# Altium integrated library NXP_60_26022015.IntLib: 1306 symbols (part 27 of 28)
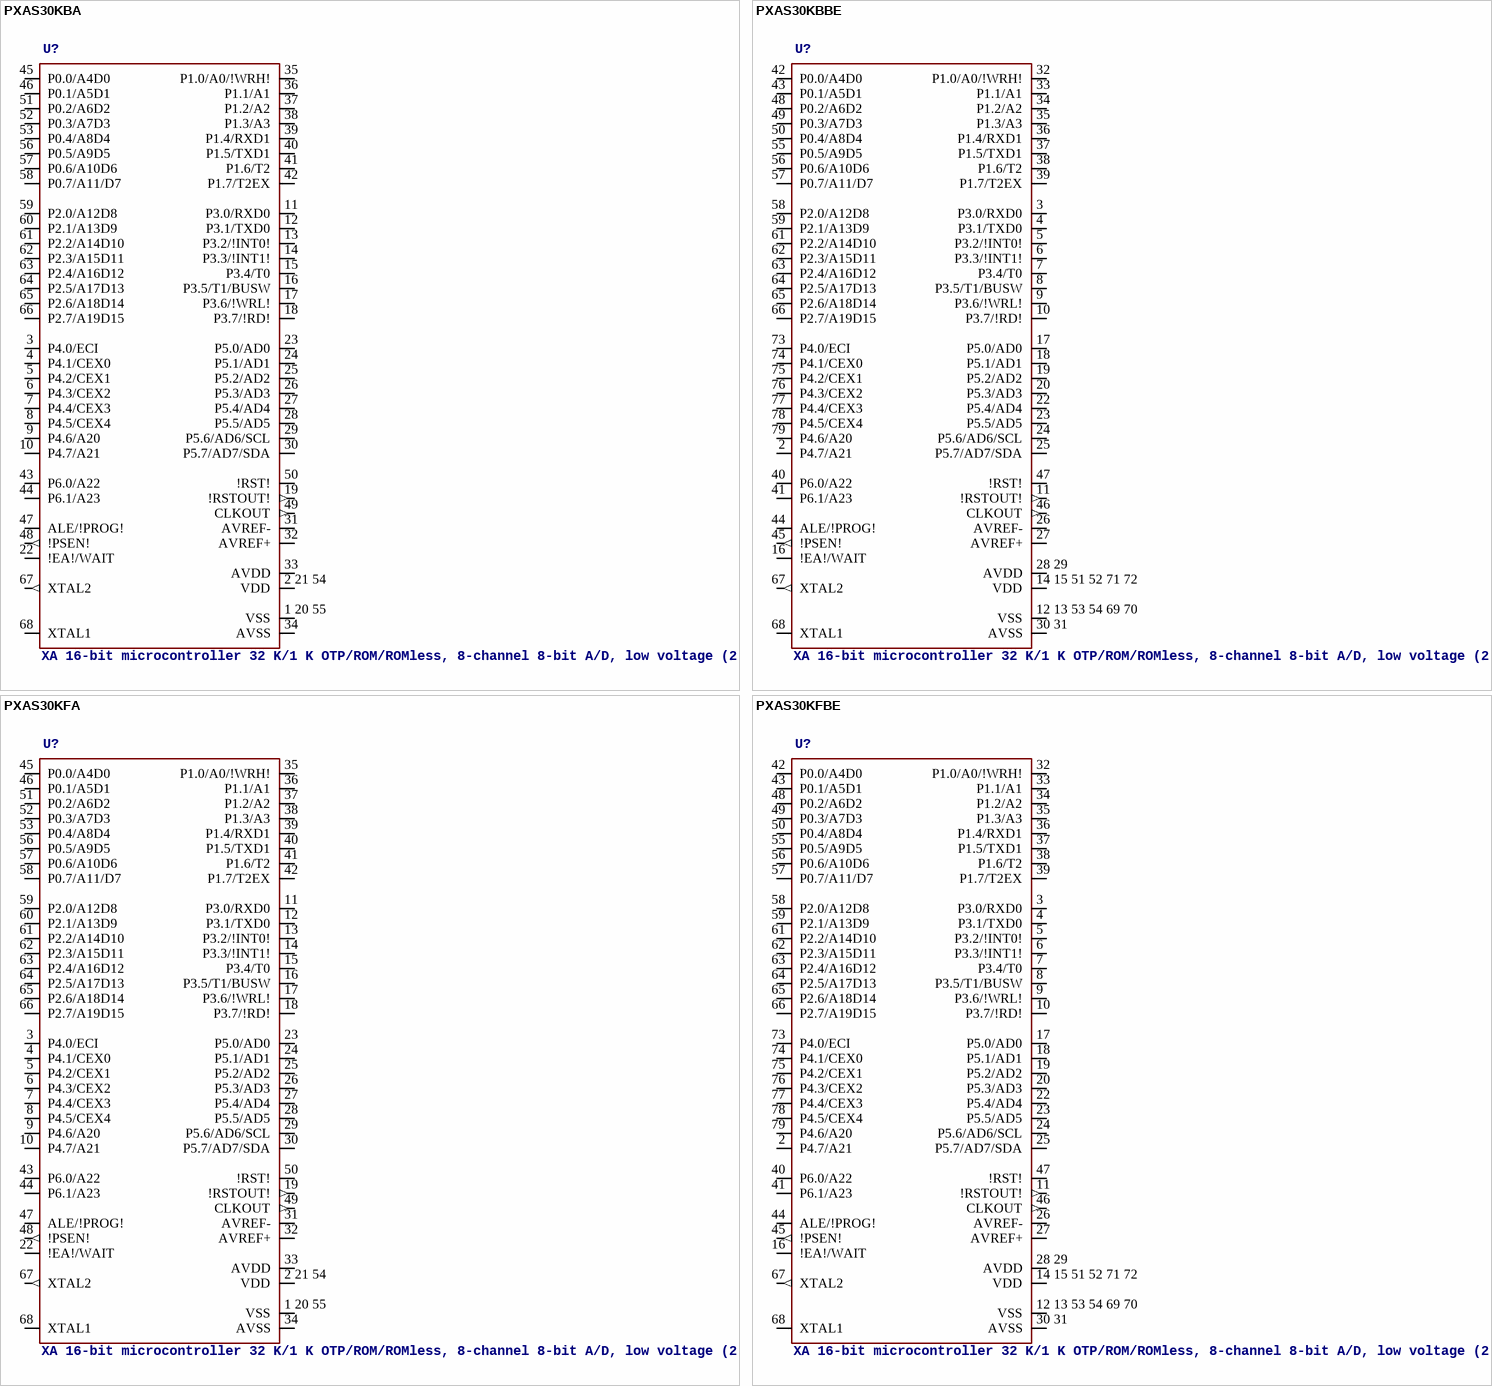
[diagram p211: symbols PXAS30KBA to PXAS30KFBE]

## PXAS30KBA
designator U?, comment XA 16-bit microcontroller 32 K/1 K OTP/ROM/ROMless, 8-channel 8-bit A/D, low voltage (2.7 V–5.5 V), I2C, 2 UARTs, 16 MB address range The XA-S3 device is a member of NXP Semiconductors’ XA (eXtended Architecture) family of high performance 16-bit single-chip microcontrollers. The XA-S3 device combines many powerful peripherals on one chip. With its high performance A/D converter, timers/counters, watchdog, Programmable Counter Array (PCA), I2C interface, dual UARTs, and multiple general purpose I/O ports, it is suited for general multipurpose high performance embedded control functions.    AAL Eindhoven MK
footprint SOT188
pins: 1 20 55 VSS, 2 21 54 VDD (power), 3 P4.0/ECI, 4 P4.1/CEX0, 5 P4.2/CEX1, 6 P4.3/CEX2, 7 P4.4/CEX3, 8 P4.5/CEX4, 9 P4.6/A20, 10 P4.7/A21, 11 P3.0/RXD0, 12 P3.1/TXD0, 13 P3.2/!INT0!, 14 P3.3/!INT1!, 15 P3.4/T0, 16 P3.5/T1/BUSW, 17 P3.6/!WRL!, 18 P3.7/!RD!, 19 !RSTOUT! (out), 22 !EA!/WAIT, 23 P5.0/AD0, 24 P5.1/AD1, 25 P5.2/AD2, 26 P5.3/AD3, 27 P5.4/AD4, 28 P5.5/AD5, 29 P5.6/AD6/SCL, 30 P5.7/AD7/SDA, 31 AVREF-, 32 AVREF+, 33 AVDD (power), 34 AVSS (power), 35 P1.0/A0/!WRH!, 36 P1.1/A1, 37 P1.2/A2, 38 P1.3/A3, 39 P1.4/RXD1, 40 P1.5/TXD1, 41 P1.6/T2, 42 P1.7/T2EX, 43 P6.0/A22, 44 P6.1/A23, 45 P0.0/A4D0, 46 P0.1/A5D1, 47 ALE/!PROG!, 48 !PSEN! (out), 49 CLKOUT (out), 50 !RST!, 51 P0.2/A6D2, 52 P0.3/A7D3, 53 P0.4/A8D4, 56 P0.5/A9D5, 57 P0.6/A10D6, 58 P0.7/A11/D7, 59 P2.0/A12D8, 60 P2.1/A13D9, 61 P2.2/A14D10, 62 P2.3/A15D11, 63 P2.4/A16D12, 64 P2.5/A17D13, 65 P2.6/A18D14, 66 P2.7/A19D15, 67 XTAL2 (out), 68 XTAL1

## PXAS30KBBE
designator U?, comment XA 16-bit microcontroller 32 K/1 K OTP/ROM/ROMless, 8-channel 8-bit A/D, low voltage (2.7 V–5.5 V), I2C, 2 UARTs, 16 MB address range The XA-S3 device is a member of NXP Semiconductors’ XA (eXtended Architecture) family of high performance 16-bit single-chip microcontrollers. The XA-S3 device combines many powerful peripherals on one chip. With its high performance A/D converter, timers/counters, watchdog, Programmable Counter Array (PCA), I2C interface, dual UARTs, and multiple general purpose I/O ports, it is suited for general multipurpose high performance embedded control functions.    AAL Eindhoven MK
footprint SOT315-1
pins: 2 P4.7/A21, 3 P3.0/RXD0, 4 P3.1/TXD0, 5 P3.2/!INT0!, 6 P3.3/!INT1!, 7 P3.4/T0, 8 P3.5/T1/BUSW, 9 P3.6/!WRL!, 10 P3.7/!RD!, 11 !RSTOUT! (out), 12 13 53 54 69 70 VSS, 14 15 51 52 71 72 VDD (power), 16 !EA!/WAIT, 17 P5.0/AD0, 18 P5.1/AD1, 19 P5.2/AD2, 20 P5.3/AD3, 22 P5.4/AD4, 23 P5.5/AD5, 24 P5.6/AD6/SCL, 25 P5.7/AD7/SDA, 26 AVREF-, 27 AVREF+, 28 29 AVDD (power), 30 31 AVSS (power), 32 P1.0/A0/!WRH!, 33 P1.1/A1, 34 P1.2/A2, 35 P1.3/A3, 36 P1.4/RXD1, 37 P1.5/TXD1, 38 P1.6/T2, 39 P1.7/T2EX, 40 P6.0/A22, 41 P6.1/A23, 42 P0.0/A4D0, 43 P0.1/A5D1, 44 ALE/!PROG!, 45 !PSEN! (out), 46 CLKOUT (out), 47 !RST!, 48 P0.2/A6D2, 49 P0.3/A7D3, 50 P0.4/A8D4, 55 P0.5/A9D5, 56 P0.6/A10D6, 57 P0.7/A11/D7, 58 P2.0/A12D8, 59 P2.1/A13D9, 61 P2.2/A14D10, 62 P2.3/A15D11, 63 P2.4/A16D12, 64 P2.5/A17D13, 65 P2.6/A18D14, 66 P2.7/A19D15, 67 XTAL2 (out), 68 XTAL1, 73 P4.0/ECI, 74 P4.1/CEX0, 75 P4.2/CEX1, 76 P4.3/CEX2, 77 P4.4/CEX3, 78 P4.5/CEX4, 79 P4.6/A20

## PXAS30KFA
designator U?, comment XA 16-bit microcontroller 32 K/1 K OTP/ROM/ROMless, 8-channel 8-bit A/D, low voltage (2.7 V–5.5 V), I2C, 2 UARTs, 16 MB address range The XA-S3 device is a member of NXP Semiconductors’ XA (eXtended Architecture) family of high performance 16-bit single-chip microcontrollers. The XA-S3 device combines many powerful peripherals on one chip. With its high performance A/D converter, timers/counters, watchdog, Programmable Counter Array (PCA), I2C interface, dual UARTs, and multiple general purpose I/O ports, it is suited for general multipurpose high performance embedded control functions.    AAL Eindhoven MK
footprint SOT188
pins: 1 20 55 VSS, 2 21 54 VDD (power), 3 P4.0/ECI, 4 P4.1/CEX0, 5 P4.2/CEX1, 6 P4.3/CEX2, 7 P4.4/CEX3, 8 P4.5/CEX4, 9 P4.6/A20, 10 P4.7/A21, 11 P3.0/RXD0, 12 P3.1/TXD0, 13 P3.2/!INT0!, 14 P3.3/!INT1!, 15 P3.4/T0, 16 P3.5/T1/BUSW, 17 P3.6/!WRL!, 18 P3.7/!RD!, 19 !RSTOUT! (out), 22 !EA!/WAIT, 23 P5.0/AD0, 24 P5.1/AD1, 25 P5.2/AD2, 26 P5.3/AD3, 27 P5.4/AD4, 28 P5.5/AD5, 29 P5.6/AD6/SCL, 30 P5.7/AD7/SDA, 31 AVREF-, 32 AVREF+, 33 AVDD (power), 34 AVSS (power), 35 P1.0/A0/!WRH!, 36 P1.1/A1, 37 P1.2/A2, 38 P1.3/A3, 39 P1.4/RXD1, 40 P1.5/TXD1, 41 P1.6/T2, 42 P1.7/T2EX, 43 P6.0/A22, 44 P6.1/A23, 45 P0.0/A4D0, 46 P0.1/A5D1, 47 ALE/!PROG!, 48 !PSEN! (out), 49 CLKOUT (out), 50 !RST!, 51 P0.2/A6D2, 52 P0.3/A7D3, 53 P0.4/A8D4, 56 P0.5/A9D5, 57 P0.6/A10D6, 58 P0.7/A11/D7, 59 P2.0/A12D8, 60 P2.1/A13D9, 61 P2.2/A14D10, 62 P2.3/A15D11, 63 P2.4/A16D12, 64 P2.5/A17D13, 65 P2.6/A18D14, 66 P2.7/A19D15, 67 XTAL2 (out), 68 XTAL1

## PXAS30KFBE
designator U?, comment XA 16-bit microcontroller 32 K/1 K OTP/ROM/ROMless, 8-channel 8-bit A/D, low voltage (2.7 V–5.5 V), I2C, 2 UARTs, 16 MB address range The XA-S3 device is a member of NXP Semiconductors’ XA (eXtended Architecture) family of high performance 16-bit single-chip microcontrollers. The XA-S3 device combines many powerful peripherals on one chip. With its high performance A/D converter, timers/counters, watchdog, Programmable Counter Array (PCA), I2C interface, dual UARTs, and multiple general purpose I/O ports, it is suited for general multipurpose high performance embedded control functions.    AAL Eindhoven MK
footprint SOT315-1
pins: 2 P4.7/A21, 3 P3.0/RXD0, 4 P3.1/TXD0, 5 P3.2/!INT0!, 6 P3.3/!INT1!, 7 P3.4/T0, 8 P3.5/T1/BUSW, 9 P3.6/!WRL!, 10 P3.7/!RD!, 11 !RSTOUT! (out), 12 13 53 54 69 70 VSS, 14 15 51 52 71 72 VDD (power), 16 !EA!/WAIT, 17 P5.0/AD0, 18 P5.1/AD1, 19 P5.2/AD2, 20 P5.3/AD3, 22 P5.4/AD4, 23 P5.5/AD5, 24 P5.6/AD6/SCL, 25 P5.7/AD7/SDA, 26 AVREF-, 27 AVREF+, 28 29 AVDD (power), 30 31 AVSS (power), 32 P1.0/A0/!WRH!, 33 P1.1/A1, 34 P1.2/A2, 35 P1.3/A3, 36 P1.4/RXD1, 37 P1.5/TXD1, 38 P1.6/T2, 39 P1.7/T2EX, 40 P6.0/A22, 41 P6.1/A23, 42 P0.0/A4D0, 43 P0.1/A5D1, 44 ALE/!PROG!, 45 !PSEN! (out), 46 CLKOUT (out), 47 !RST!, 48 P0.2/A6D2, 49 P0.3/A7D3, 50 P0.4/A8D4, 55 P0.5/A9D5, 56 P0.6/A10D6, 57 P0.7/A11/D7, 58 P2.0/A12D8, 59 P2.1/A13D9, 61 P2.2/A14D10, 62 P2.3/A15D11, 63 P2.4/A16D12, 64 P2.5/A17D13, 65 P2.6/A18D14, 66 P2.7/A19D15, 67 XTAL2 (out), 68 XTAL1, 73 P4.0/ECI, 74 P4.1/CEX0, 75 P4.2/CEX1, 76 P4.3/CEX2, 77 P4.4/CEX3, 78 P4.5/CEX4, 79 P4.6/A20

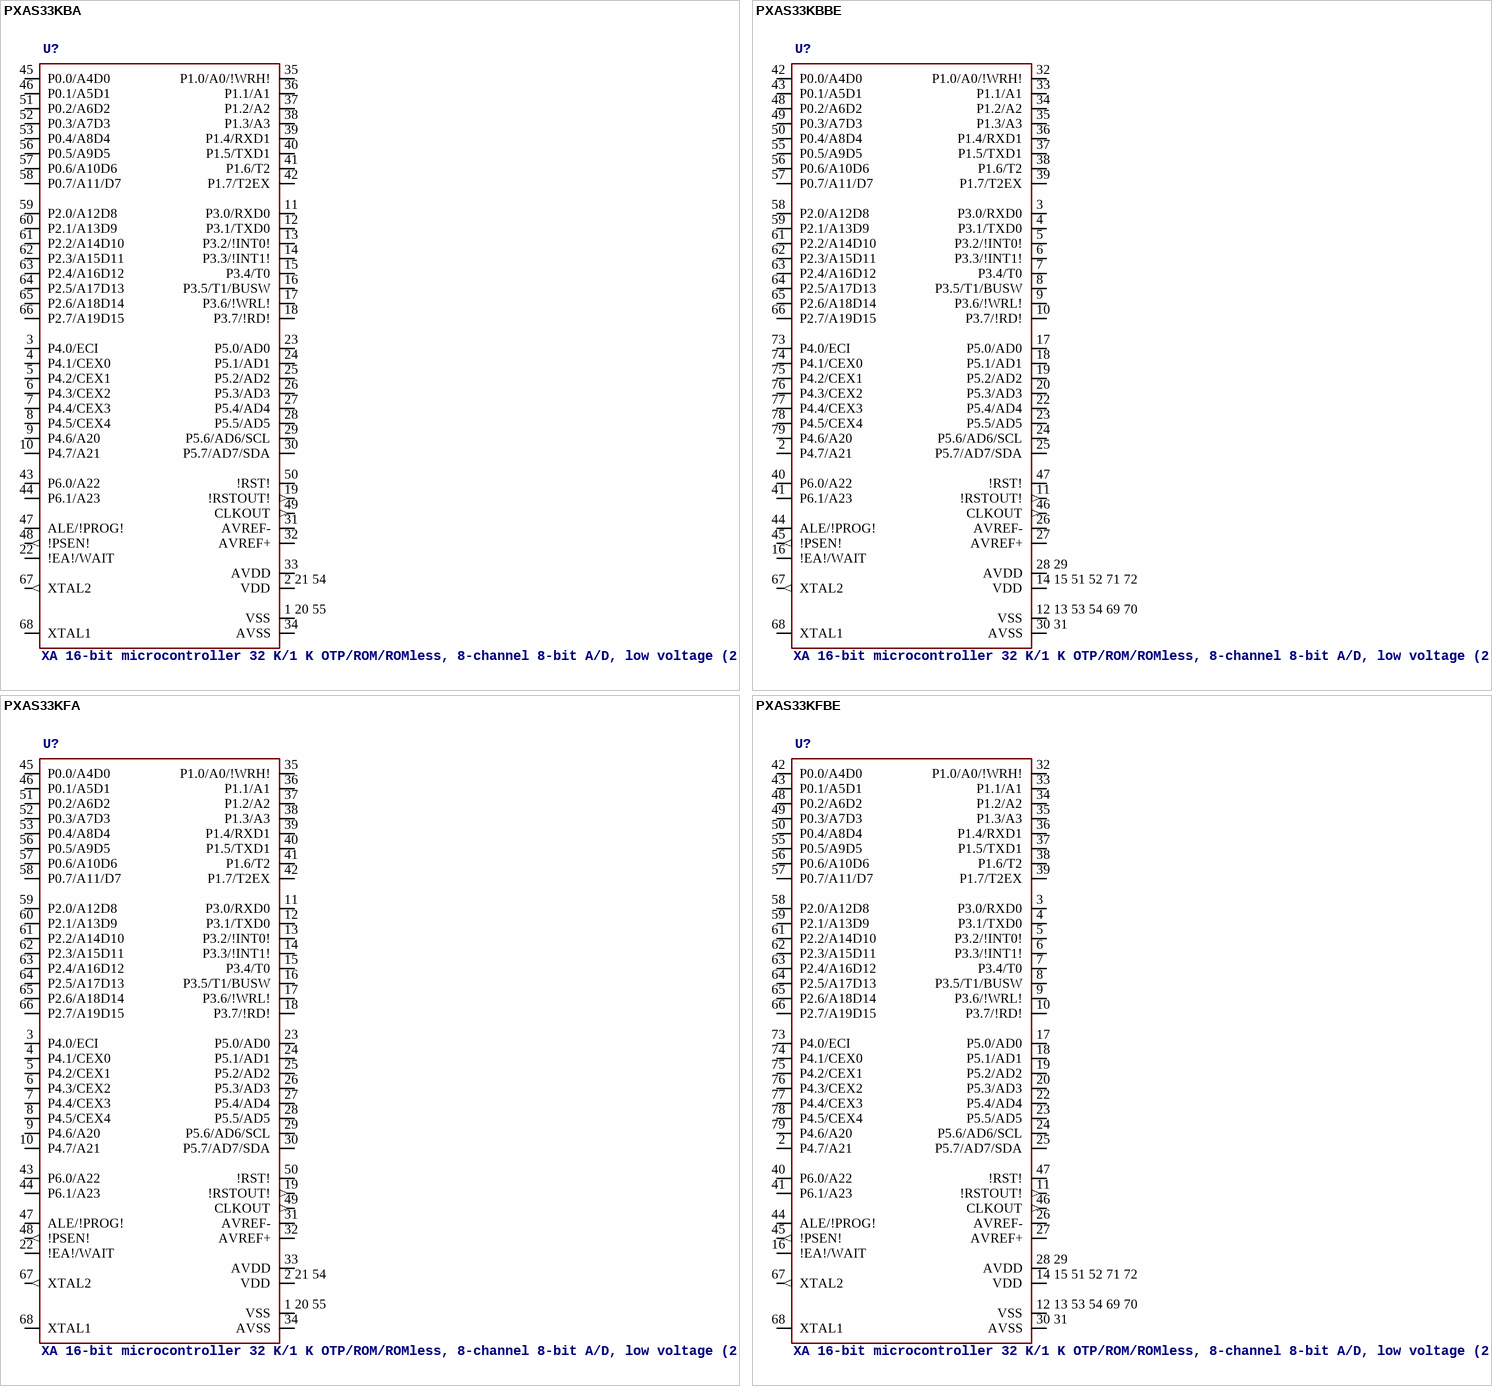
[diagram p177: symbols PXAS33KBA to PXAS33KFBE]

## PXAS33KBA
designator U?, comment XA 16-bit microcontroller 32 K/1 K OTP/ROM/ROMless, 8-channel 8-bit A/D, low voltage (2.7 V–5.5 V), I2C, 2 UARTs, 16 MB address range The XA-S3 device is a member of NXP Semiconductors’ XA (eXtended Architecture) family of high performance 16-bit single-chip microcontrollers. The XA-S3 device combines many powerful peripherals on one chip. With its high performance A/D converter, timers/counters, watchdog, Programmable Counter Array (PCA), I2C interface, dual UARTs, and multiple general purpose I/O ports, it is suited for general multipurpose high performance embedded control functions.    AAL Eindhoven MK
footprint SOT188
pins: 1 20 55 VSS, 2 21 54 VDD (power), 3 P4.0/ECI, 4 P4.1/CEX0, 5 P4.2/CEX1, 6 P4.3/CEX2, 7 P4.4/CEX3, 8 P4.5/CEX4, 9 P4.6/A20, 10 P4.7/A21, 11 P3.0/RXD0, 12 P3.1/TXD0, 13 P3.2/!INT0!, 14 P3.3/!INT1!, 15 P3.4/T0, 16 P3.5/T1/BUSW, 17 P3.6/!WRL!, 18 P3.7/!RD!, 19 !RSTOUT! (out), 22 !EA!/WAIT, 23 P5.0/AD0, 24 P5.1/AD1, 25 P5.2/AD2, 26 P5.3/AD3, 27 P5.4/AD4, 28 P5.5/AD5, 29 P5.6/AD6/SCL, 30 P5.7/AD7/SDA, 31 AVREF-, 32 AVREF+, 33 AVDD (power), 34 AVSS (power), 35 P1.0/A0/!WRH!, 36 P1.1/A1, 37 P1.2/A2, 38 P1.3/A3, 39 P1.4/RXD1, 40 P1.5/TXD1, 41 P1.6/T2, 42 P1.7/T2EX, 43 P6.0/A22, 44 P6.1/A23, 45 P0.0/A4D0, 46 P0.1/A5D1, 47 ALE/!PROG!, 48 !PSEN! (out), 49 CLKOUT (out), 50 !RST!, 51 P0.2/A6D2, 52 P0.3/A7D3, 53 P0.4/A8D4, 56 P0.5/A9D5, 57 P0.6/A10D6, 58 P0.7/A11/D7, 59 P2.0/A12D8, 60 P2.1/A13D9, 61 P2.2/A14D10, 62 P2.3/A15D11, 63 P2.4/A16D12, 64 P2.5/A17D13, 65 P2.6/A18D14, 66 P2.7/A19D15, 67 XTAL2 (out), 68 XTAL1

## PXAS33KBBE
designator U?, comment XA 16-bit microcontroller 32 K/1 K OTP/ROM/ROMless, 8-channel 8-bit A/D, low voltage (2.7 V–5.5 V), I2C, 2 UARTs, 16 MB address range The XA-S3 device is a member of NXP Semiconductors’ XA (eXtended Architecture) family of high performance 16-bit single-chip microcontrollers. The XA-S3 device combines many powerful peripherals on one chip. With its high performance A/D converter, timers/counters, watchdog, Programmable Counter Array (PCA), I2C interface, dual UARTs, and multiple general purpose I/O ports, it is suited for general multipurpose high performance embedded control functions.    AAL Eindhoven MK
footprint SOT315-1
pins: 2 P4.7/A21, 3 P3.0/RXD0, 4 P3.1/TXD0, 5 P3.2/!INT0!, 6 P3.3/!INT1!, 7 P3.4/T0, 8 P3.5/T1/BUSW, 9 P3.6/!WRL!, 10 P3.7/!RD!, 11 !RSTOUT! (out), 12 13 53 54 69 70 VSS, 14 15 51 52 71 72 VDD (power), 16 !EA!/WAIT, 17 P5.0/AD0, 18 P5.1/AD1, 19 P5.2/AD2, 20 P5.3/AD3, 22 P5.4/AD4, 23 P5.5/AD5, 24 P5.6/AD6/SCL, 25 P5.7/AD7/SDA, 26 AVREF-, 27 AVREF+, 28 29 AVDD (power), 30 31 AVSS (power), 32 P1.0/A0/!WRH!, 33 P1.1/A1, 34 P1.2/A2, 35 P1.3/A3, 36 P1.4/RXD1, 37 P1.5/TXD1, 38 P1.6/T2, 39 P1.7/T2EX, 40 P6.0/A22, 41 P6.1/A23, 42 P0.0/A4D0, 43 P0.1/A5D1, 44 ALE/!PROG!, 45 !PSEN! (out), 46 CLKOUT (out), 47 !RST!, 48 P0.2/A6D2, 49 P0.3/A7D3, 50 P0.4/A8D4, 55 P0.5/A9D5, 56 P0.6/A10D6, 57 P0.7/A11/D7, 58 P2.0/A12D8, 59 P2.1/A13D9, 61 P2.2/A14D10, 62 P2.3/A15D11, 63 P2.4/A16D12, 64 P2.5/A17D13, 65 P2.6/A18D14, 66 P2.7/A19D15, 67 XTAL2 (out), 68 XTAL1, 73 P4.0/ECI, 74 P4.1/CEX0, 75 P4.2/CEX1, 76 P4.3/CEX2, 77 P4.4/CEX3, 78 P4.5/CEX4, 79 P4.6/A20

## PXAS33KFA
designator U?, comment XA 16-bit microcontroller 32 K/1 K OTP/ROM/ROMless, 8-channel 8-bit A/D, low voltage (2.7 V–5.5 V), I2C, 2 UARTs, 16 MB address range The XA-S3 device is a member of NXP Semiconductors’ XA (eXtended Architecture) family of high performance 16-bit single-chip microcontrollers. The XA-S3 device combines many powerful peripherals on one chip. With its high performance A/D converter, timers/counters, watchdog, Programmable Counter Array (PCA), I2C interface, dual UARTs, and multiple general purpose I/O ports, it is suited for general multipurpose high performance embedded control functions.    AAL Eindhoven MK
footprint SOT188
pins: 1 20 55 VSS, 2 21 54 VDD (power), 3 P4.0/ECI, 4 P4.1/CEX0, 5 P4.2/CEX1, 6 P4.3/CEX2, 7 P4.4/CEX3, 8 P4.5/CEX4, 9 P4.6/A20, 10 P4.7/A21, 11 P3.0/RXD0, 12 P3.1/TXD0, 13 P3.2/!INT0!, 14 P3.3/!INT1!, 15 P3.4/T0, 16 P3.5/T1/BUSW, 17 P3.6/!WRL!, 18 P3.7/!RD!, 19 !RSTOUT! (out), 22 !EA!/WAIT, 23 P5.0/AD0, 24 P5.1/AD1, 25 P5.2/AD2, 26 P5.3/AD3, 27 P5.4/AD4, 28 P5.5/AD5, 29 P5.6/AD6/SCL, 30 P5.7/AD7/SDA, 31 AVREF-, 32 AVREF+, 33 AVDD (power), 34 AVSS (power), 35 P1.0/A0/!WRH!, 36 P1.1/A1, 37 P1.2/A2, 38 P1.3/A3, 39 P1.4/RXD1, 40 P1.5/TXD1, 41 P1.6/T2, 42 P1.7/T2EX, 43 P6.0/A22, 44 P6.1/A23, 45 P0.0/A4D0, 46 P0.1/A5D1, 47 ALE/!PROG!, 48 !PSEN! (out), 49 CLKOUT (out), 50 !RST!, 51 P0.2/A6D2, 52 P0.3/A7D3, 53 P0.4/A8D4, 56 P0.5/A9D5, 57 P0.6/A10D6, 58 P0.7/A11/D7, 59 P2.0/A12D8, 60 P2.1/A13D9, 61 P2.2/A14D10, 62 P2.3/A15D11, 63 P2.4/A16D12, 64 P2.5/A17D13, 65 P2.6/A18D14, 66 P2.7/A19D15, 67 XTAL2 (out), 68 XTAL1

## PXAS33KFBE
designator U?, comment XA 16-bit microcontroller 32 K/1 K OTP/ROM/ROMless, 8-channel 8-bit A/D, low voltage (2.7 V–5.5 V), I2C, 2 UARTs, 16 MB address range The XA-S3 device is a member of NXP Semiconductors’ XA (eXtended Architecture) family of high performance 16-bit single-chip microcontrollers. The XA-S3 device combines many powerful peripherals on one chip. With its high performance A/D converter, timers/counters, watchdog, Programmable Counter Array (PCA), I2C interface, dual UARTs, and multiple general purpose I/O ports, it is suited for general multipurpose high performance embedded control functions.    AAL Eindhoven MK
footprint SOT315-1
pins: 2 P4.7/A21, 3 P3.0/RXD0, 4 P3.1/TXD0, 5 P3.2/!INT0!, 6 P3.3/!INT1!, 7 P3.4/T0, 8 P3.5/T1/BUSW, 9 P3.6/!WRL!, 10 P3.7/!RD!, 11 !RSTOUT! (out), 12 13 53 54 69 70 VSS, 14 15 51 52 71 72 VDD (power), 16 !EA!/WAIT, 17 P5.0/AD0, 18 P5.1/AD1, 19 P5.2/AD2, 20 P5.3/AD3, 22 P5.4/AD4, 23 P5.5/AD5, 24 P5.6/AD6/SCL, 25 P5.7/AD7/SDA, 26 AVREF-, 27 AVREF+, 28 29 AVDD (power), 30 31 AVSS (power), 32 P1.0/A0/!WRH!, 33 P1.1/A1, 34 P1.2/A2, 35 P1.3/A3, 36 P1.4/RXD1, 37 P1.5/TXD1, 38 P1.6/T2, 39 P1.7/T2EX, 40 P6.0/A22, 41 P6.1/A23, 42 P0.0/A4D0, 43 P0.1/A5D1, 44 ALE/!PROG!, 45 !PSEN! (out), 46 CLKOUT (out), 47 !RST!, 48 P0.2/A6D2, 49 P0.3/A7D3, 50 P0.4/A8D4, 55 P0.5/A9D5, 56 P0.6/A10D6, 57 P0.7/A11/D7, 58 P2.0/A12D8, 59 P2.1/A13D9, 61 P2.2/A14D10, 62 P2.3/A15D11, 63 P2.4/A16D12, 64 P2.5/A17D13, 65 P2.6/A18D14, 66 P2.7/A19D15, 67 XTAL2 (out), 68 XTAL1, 73 P4.0/ECI, 74 P4.1/CEX0, 75 P4.2/CEX1, 76 P4.3/CEX2, 77 P4.4/CEX3, 78 P4.5/CEX4, 79 P4.6/A20

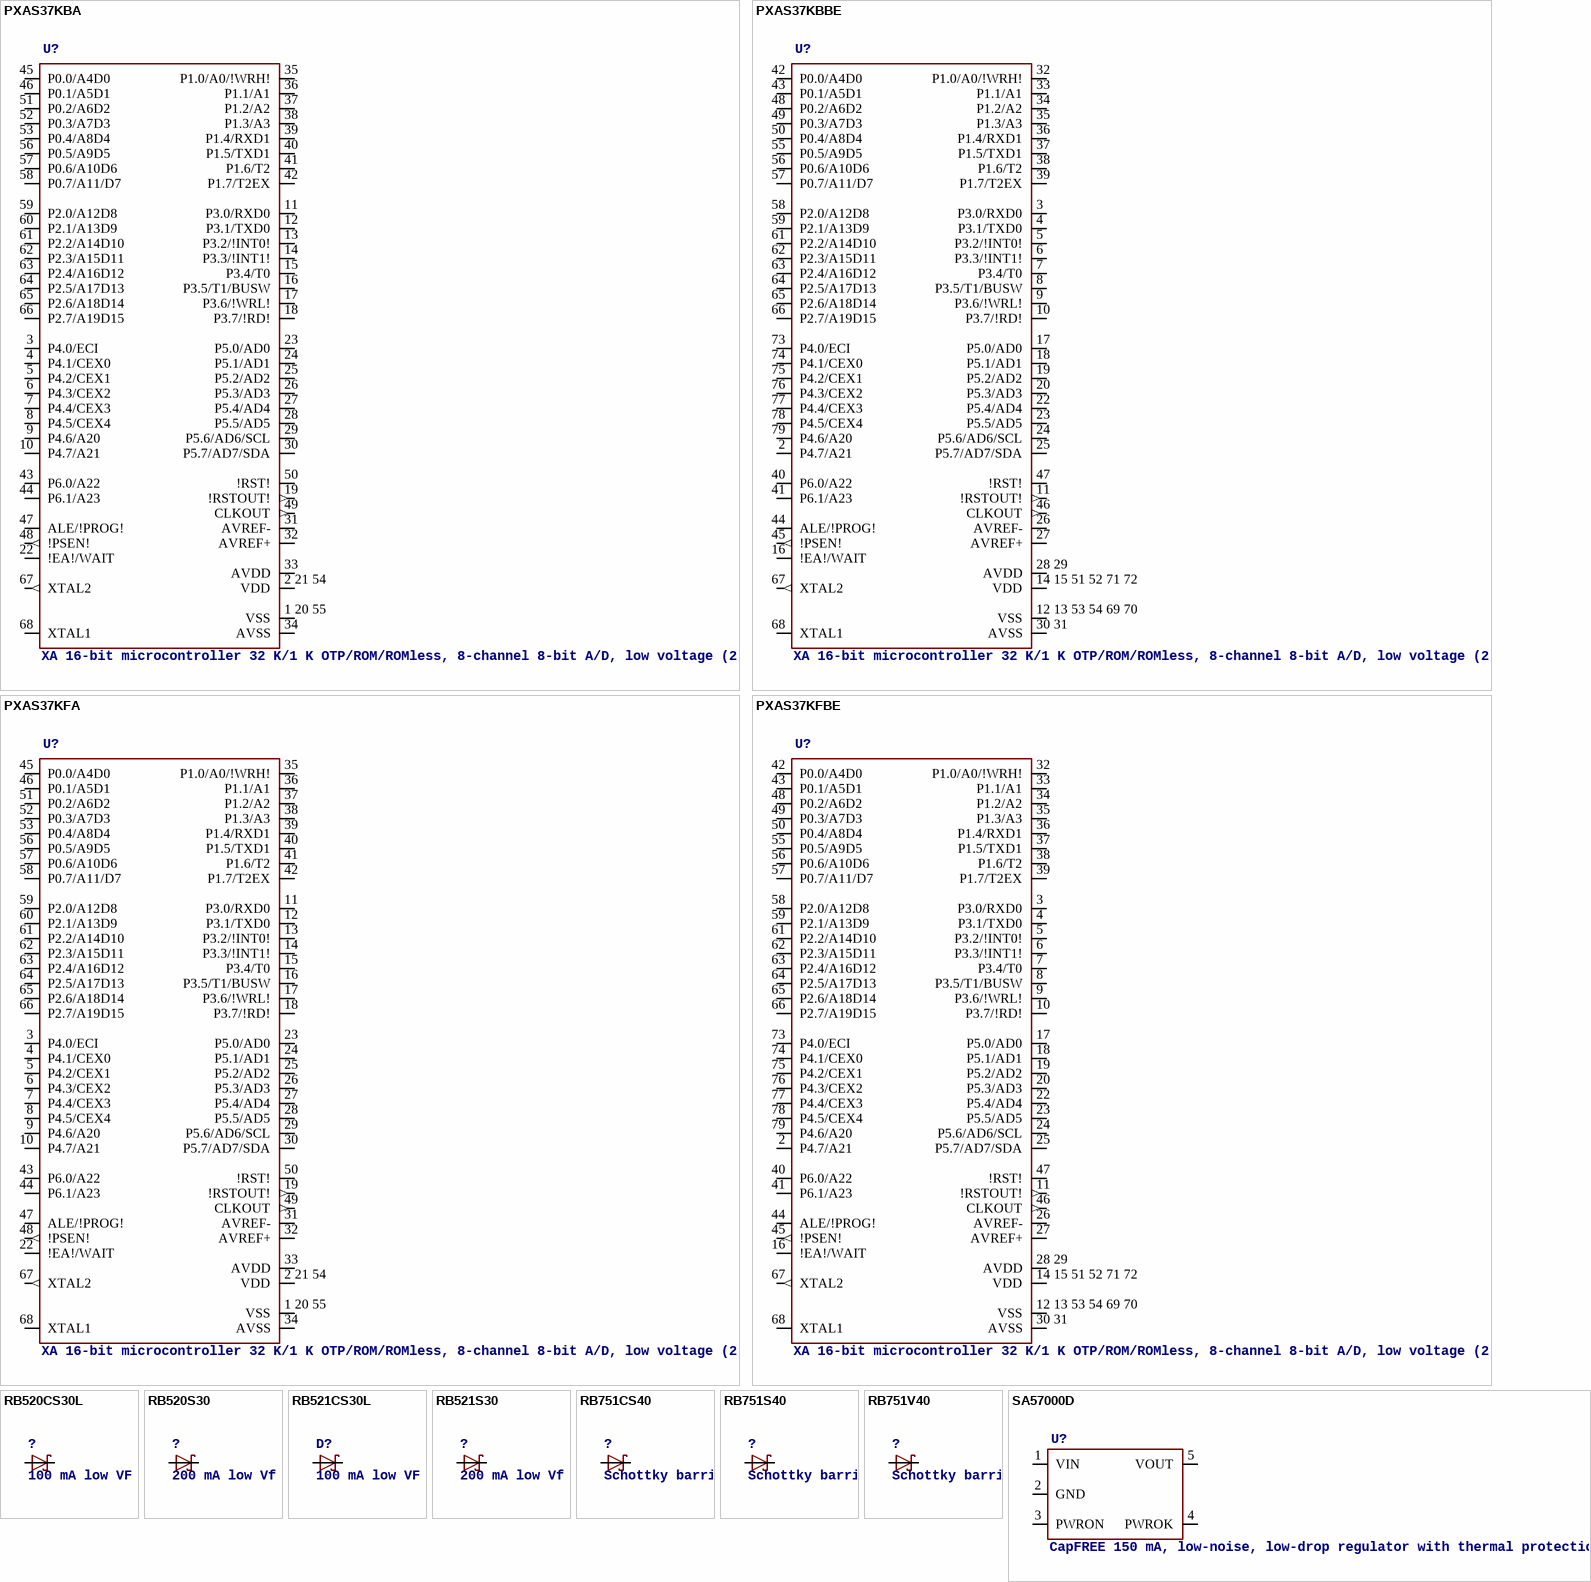
[diagram p178: symbols PXAS37KBA to SA57000D]

## PXAS37KBA
designator U?, comment XA 16-bit microcontroller 32 K/1 K OTP/ROM/ROMless, 8-channel 8-bit A/D, low voltage (2.7 V–5.5 V), I2C, 2 UARTs, 16 MB address range The XA-S3 device is a member of NXP Semiconductors’ XA (eXtended Architecture) family of high performance 16-bit single-chip microcontrollers. The XA-S3 device combines many powerful peripherals on one chip. With its high performance A/D converter, timers/counters, watchdog, Programmable Counter Array (PCA), I2C interface, dual UARTs, and multiple general purpose I/O ports, it is suited for general multipurpose high performance embedded control functions.    AAL Eindhoven MK
footprint SOT188
pins: 1 20 55 VSS, 2 21 54 VDD (power), 3 P4.0/ECI, 4 P4.1/CEX0, 5 P4.2/CEX1, 6 P4.3/CEX2, 7 P4.4/CEX3, 8 P4.5/CEX4, 9 P4.6/A20, 10 P4.7/A21, 11 P3.0/RXD0, 12 P3.1/TXD0, 13 P3.2/!INT0!, 14 P3.3/!INT1!, 15 P3.4/T0, 16 P3.5/T1/BUSW, 17 P3.6/!WRL!, 18 P3.7/!RD!, 19 !RSTOUT! (out), 22 !EA!/WAIT, 23 P5.0/AD0, 24 P5.1/AD1, 25 P5.2/AD2, 26 P5.3/AD3, 27 P5.4/AD4, 28 P5.5/AD5, 29 P5.6/AD6/SCL, 30 P5.7/AD7/SDA, 31 AVREF-, 32 AVREF+, 33 AVDD (power), 34 AVSS (power), 35 P1.0/A0/!WRH!, 36 P1.1/A1, 37 P1.2/A2, 38 P1.3/A3, 39 P1.4/RXD1, 40 P1.5/TXD1, 41 P1.6/T2, 42 P1.7/T2EX, 43 P6.0/A22, 44 P6.1/A23, 45 P0.0/A4D0, 46 P0.1/A5D1, 47 ALE/!PROG!, 48 !PSEN! (out), 49 CLKOUT (out), 50 !RST!, 51 P0.2/A6D2, 52 P0.3/A7D3, 53 P0.4/A8D4, 56 P0.5/A9D5, 57 P0.6/A10D6, 58 P0.7/A11/D7, 59 P2.0/A12D8, 60 P2.1/A13D9, 61 P2.2/A14D10, 62 P2.3/A15D11, 63 P2.4/A16D12, 64 P2.5/A17D13, 65 P2.6/A18D14, 66 P2.7/A19D15, 67 XTAL2 (out), 68 XTAL1

## PXAS37KBBE
designator U?, comment XA 16-bit microcontroller 32 K/1 K OTP/ROM/ROMless, 8-channel 8-bit A/D, low voltage (2.7 V–5.5 V), I2C, 2 UARTs, 16 MB address range The XA-S3 device is a member of NXP Semiconductors’ XA (eXtended Architecture) family of high performance 16-bit single-chip microcontrollers. The XA-S3 device combines many powerful peripherals on one chip. With its high performance A/D converter, timers/counters, watchdog, Programmable Counter Array (PCA), I2C interface, dual UARTs, and multiple general purpose I/O ports, it is suited for general multipurpose high performance embedded control functions.    AAL Eindhoven MK
footprint SOT315-1
pins: 2 P4.7/A21, 3 P3.0/RXD0, 4 P3.1/TXD0, 5 P3.2/!INT0!, 6 P3.3/!INT1!, 7 P3.4/T0, 8 P3.5/T1/BUSW, 9 P3.6/!WRL!, 10 P3.7/!RD!, 11 !RSTOUT! (out), 12 13 53 54 69 70 VSS, 14 15 51 52 71 72 VDD (power), 16 !EA!/WAIT, 17 P5.0/AD0, 18 P5.1/AD1, 19 P5.2/AD2, 20 P5.3/AD3, 22 P5.4/AD4, 23 P5.5/AD5, 24 P5.6/AD6/SCL, 25 P5.7/AD7/SDA, 26 AVREF-, 27 AVREF+, 28 29 AVDD (power), 30 31 AVSS (power), 32 P1.0/A0/!WRH!, 33 P1.1/A1, 34 P1.2/A2, 35 P1.3/A3, 36 P1.4/RXD1, 37 P1.5/TXD1, 38 P1.6/T2, 39 P1.7/T2EX, 40 P6.0/A22, 41 P6.1/A23, 42 P0.0/A4D0, 43 P0.1/A5D1, 44 ALE/!PROG!, 45 !PSEN! (out), 46 CLKOUT (out), 47 !RST!, 48 P0.2/A6D2, 49 P0.3/A7D3, 50 P0.4/A8D4, 55 P0.5/A9D5, 56 P0.6/A10D6, 57 P0.7/A11/D7, 58 P2.0/A12D8, 59 P2.1/A13D9, 61 P2.2/A14D10, 62 P2.3/A15D11, 63 P2.4/A16D12, 64 P2.5/A17D13, 65 P2.6/A18D14, 66 P2.7/A19D15, 67 XTAL2 (out), 68 XTAL1, 73 P4.0/ECI, 74 P4.1/CEX0, 75 P4.2/CEX1, 76 P4.3/CEX2, 77 P4.4/CEX3, 78 P4.5/CEX4, 79 P4.6/A20

## PXAS37KFA
designator U?, comment XA 16-bit microcontroller 32 K/1 K OTP/ROM/ROMless, 8-channel 8-bit A/D, low voltage (2.7 V–5.5 V), I2C, 2 UARTs, 16 MB address range The XA-S3 device is a member of NXP Semiconductors’ XA (eXtended Architecture) family of high performance 16-bit single-chip microcontrollers. The XA-S3 device combines many powerful peripherals on one chip. With its high performance A/D converter, timers/counters, watchdog, Programmable Counter Array (PCA), I2C interface, dual UARTs, and multiple general purpose I/O ports, it is suited for general multipurpose high performance embedded control functions.    AAL Eindhoven MK
footprint SOT188
pins: 1 20 55 VSS, 2 21 54 VDD (power), 3 P4.0/ECI, 4 P4.1/CEX0, 5 P4.2/CEX1, 6 P4.3/CEX2, 7 P4.4/CEX3, 8 P4.5/CEX4, 9 P4.6/A20, 10 P4.7/A21, 11 P3.0/RXD0, 12 P3.1/TXD0, 13 P3.2/!INT0!, 14 P3.3/!INT1!, 15 P3.4/T0, 16 P3.5/T1/BUSW, 17 P3.6/!WRL!, 18 P3.7/!RD!, 19 !RSTOUT! (out), 22 !EA!/WAIT, 23 P5.0/AD0, 24 P5.1/AD1, 25 P5.2/AD2, 26 P5.3/AD3, 27 P5.4/AD4, 28 P5.5/AD5, 29 P5.6/AD6/SCL, 30 P5.7/AD7/SDA, 31 AVREF-, 32 AVREF+, 33 AVDD (power), 34 AVSS (power), 35 P1.0/A0/!WRH!, 36 P1.1/A1, 37 P1.2/A2, 38 P1.3/A3, 39 P1.4/RXD1, 40 P1.5/TXD1, 41 P1.6/T2, 42 P1.7/T2EX, 43 P6.0/A22, 44 P6.1/A23, 45 P0.0/A4D0, 46 P0.1/A5D1, 47 ALE/!PROG!, 48 !PSEN! (out), 49 CLKOUT (out), 50 !RST!, 51 P0.2/A6D2, 52 P0.3/A7D3, 53 P0.4/A8D4, 56 P0.5/A9D5, 57 P0.6/A10D6, 58 P0.7/A11/D7, 59 P2.0/A12D8, 60 P2.1/A13D9, 61 P2.2/A14D10, 62 P2.3/A15D11, 63 P2.4/A16D12, 64 P2.5/A17D13, 65 P2.6/A18D14, 66 P2.7/A19D15, 67 XTAL2 (out), 68 XTAL1

## PXAS37KFBE
designator U?, comment XA 16-bit microcontroller 32 K/1 K OTP/ROM/ROMless, 8-channel 8-bit A/D, low voltage (2.7 V–5.5 V), I2C, 2 UARTs, 16 MB address range The XA-S3 device is a member of NXP Semiconductors’ XA (eXtended Architecture) family of high performance 16-bit single-chip microcontrollers. The XA-S3 device combines many powerful peripherals on one chip. With its high performance A/D converter, timers/counters, watchdog, Programmable Counter Array (PCA), I2C interface, dual UARTs, and multiple general purpose I/O ports, it is suited for general multipurpose high performance embedded control functions.    AAL Eindhoven MK
footprint SOT315-1
pins: 2 P4.7/A21, 3 P3.0/RXD0, 4 P3.1/TXD0, 5 P3.2/!INT0!, 6 P3.3/!INT1!, 7 P3.4/T0, 8 P3.5/T1/BUSW, 9 P3.6/!WRL!, 10 P3.7/!RD!, 11 !RSTOUT! (out), 12 13 53 54 69 70 VSS, 14 15 51 52 71 72 VDD (power), 16 !EA!/WAIT, 17 P5.0/AD0, 18 P5.1/AD1, 19 P5.2/AD2, 20 P5.3/AD3, 22 P5.4/AD4, 23 P5.5/AD5, 24 P5.6/AD6/SCL, 25 P5.7/AD7/SDA, 26 AVREF-, 27 AVREF+, 28 29 AVDD (power), 30 31 AVSS (power), 32 P1.0/A0/!WRH!, 33 P1.1/A1, 34 P1.2/A2, 35 P1.3/A3, 36 P1.4/RXD1, 37 P1.5/TXD1, 38 P1.6/T2, 39 P1.7/T2EX, 40 P6.0/A22, 41 P6.1/A23, 42 P0.0/A4D0, 43 P0.1/A5D1, 44 ALE/!PROG!, 45 !PSEN! (out), 46 CLKOUT (out), 47 !RST!, 48 P0.2/A6D2, 49 P0.3/A7D3, 50 P0.4/A8D4, 55 P0.5/A9D5, 56 P0.6/A10D6, 57 P0.7/A11/D7, 58 P2.0/A12D8, 59 P2.1/A13D9, 61 P2.2/A14D10, 62 P2.3/A15D11, 63 P2.4/A16D12, 64 P2.5/A17D13, 65 P2.6/A18D14, 66 P2.7/A19D15, 67 XTAL2 (out), 68 XTAL1, 73 P4.0/ECI, 74 P4.1/CEX0, 75 P4.2/CEX1, 76 P4.3/CEX2, 77 P4.4/CEX3, 78 P4.5/CEX4, 79 P4.6/A20

## RB520CS30L
designator ?, comment 100 mA low VF MEGA Schottky barrier rectifier  Planar Maximum Efficiency General Application (MEGA) Schottky barrier rectifier with an integrated guard ring for stress protection, encapsulated in a SOD882 leadless ultra small Surface-Mounted Device (SMD) plastic package.    AAL Eindhoven MK
footprint SOD882(T)
pins: 1 K, 2 A

## RB520S30
designator ?, comment 200 mA low Vf MEGA Schottky barrier rectifier Planar Maximum Ef?ciency General Application (MEGA) Schottky barrier recti?er with an integrated guard ring for stress protection, encapsulated in a SOD523 (SC-79) ultra small and ?at lead Surface-Mounted Device (SMD) plastic package.   AAL Eindhoven MK
footprint SOD523
pins: 1 K, 2 A

## RB521CS30L
designator D?, comment 100 mA low VF MEGA Schottky barrier rectifier  Planar Maximum Efficiency General Application (MEGA) Schottky barrier rectifier with an integrated guard ring for stress protection, encapsulated in a SOD882 leadless ultra small Surface-Mounted Device (SMD) plastic package.    AAL Eindhoven MK
footprint SOD882(T)
pins: 1 K, 2 A

## RB521S30
designator ?, comment 200 mA low Vf MEGA Schottky barrier rectifier Planar Maximum Ef?ciency General Application (MEGA) Schottky barrier recti?er with an integrated guard ring for stress protection, encapsulated in a SOD523 (SC-79) ultra small and ?at lead Surface-Mounted Device (SMD) plastic package.   AAL Eindhoven MK
footprint SOD523
pins: 1 K, 2 A

## RB751CS40
designator ?, comment Schottky barrier single diode Planar Schottky barrier single diodes with an integrated guard ring for stress protection, encapsulated in small Surface-Mounted Device (SMD) plastic packages.   AAL Eindhoven MK
footprint SOD882(T)
pins: 1 K, 2 A

## RB751S40
designator ?, comment Schottky barrier single diode Planar Schottky barrier single diodes with an integrated guard ring for stress protection, encapsulated in small Surface-Mounted Device (SMD) plastic packages.   AAL Eindhoven MK
footprint SOD523
pins: 1 K, 2 A

## RB751V40
designator ?, comment Schottky barrier single diode Planar Schottky barrier single diodes with an integrated guard ring for stress protection, encapsulated in small Surface-Mounted Device (SMD) plastic packages.   AAL Eindhoven MK
footprint SOD323(F)
pins: 1 K, 2 A

## SA57000D
designator U?, comment CapFREE 150 mA, low-noise, low-drop regulator with thermal protection
footprint SOT680
pins: 1 VIN, 2 GND, 3 PWRON, 4 PWROK, 5 VOUT

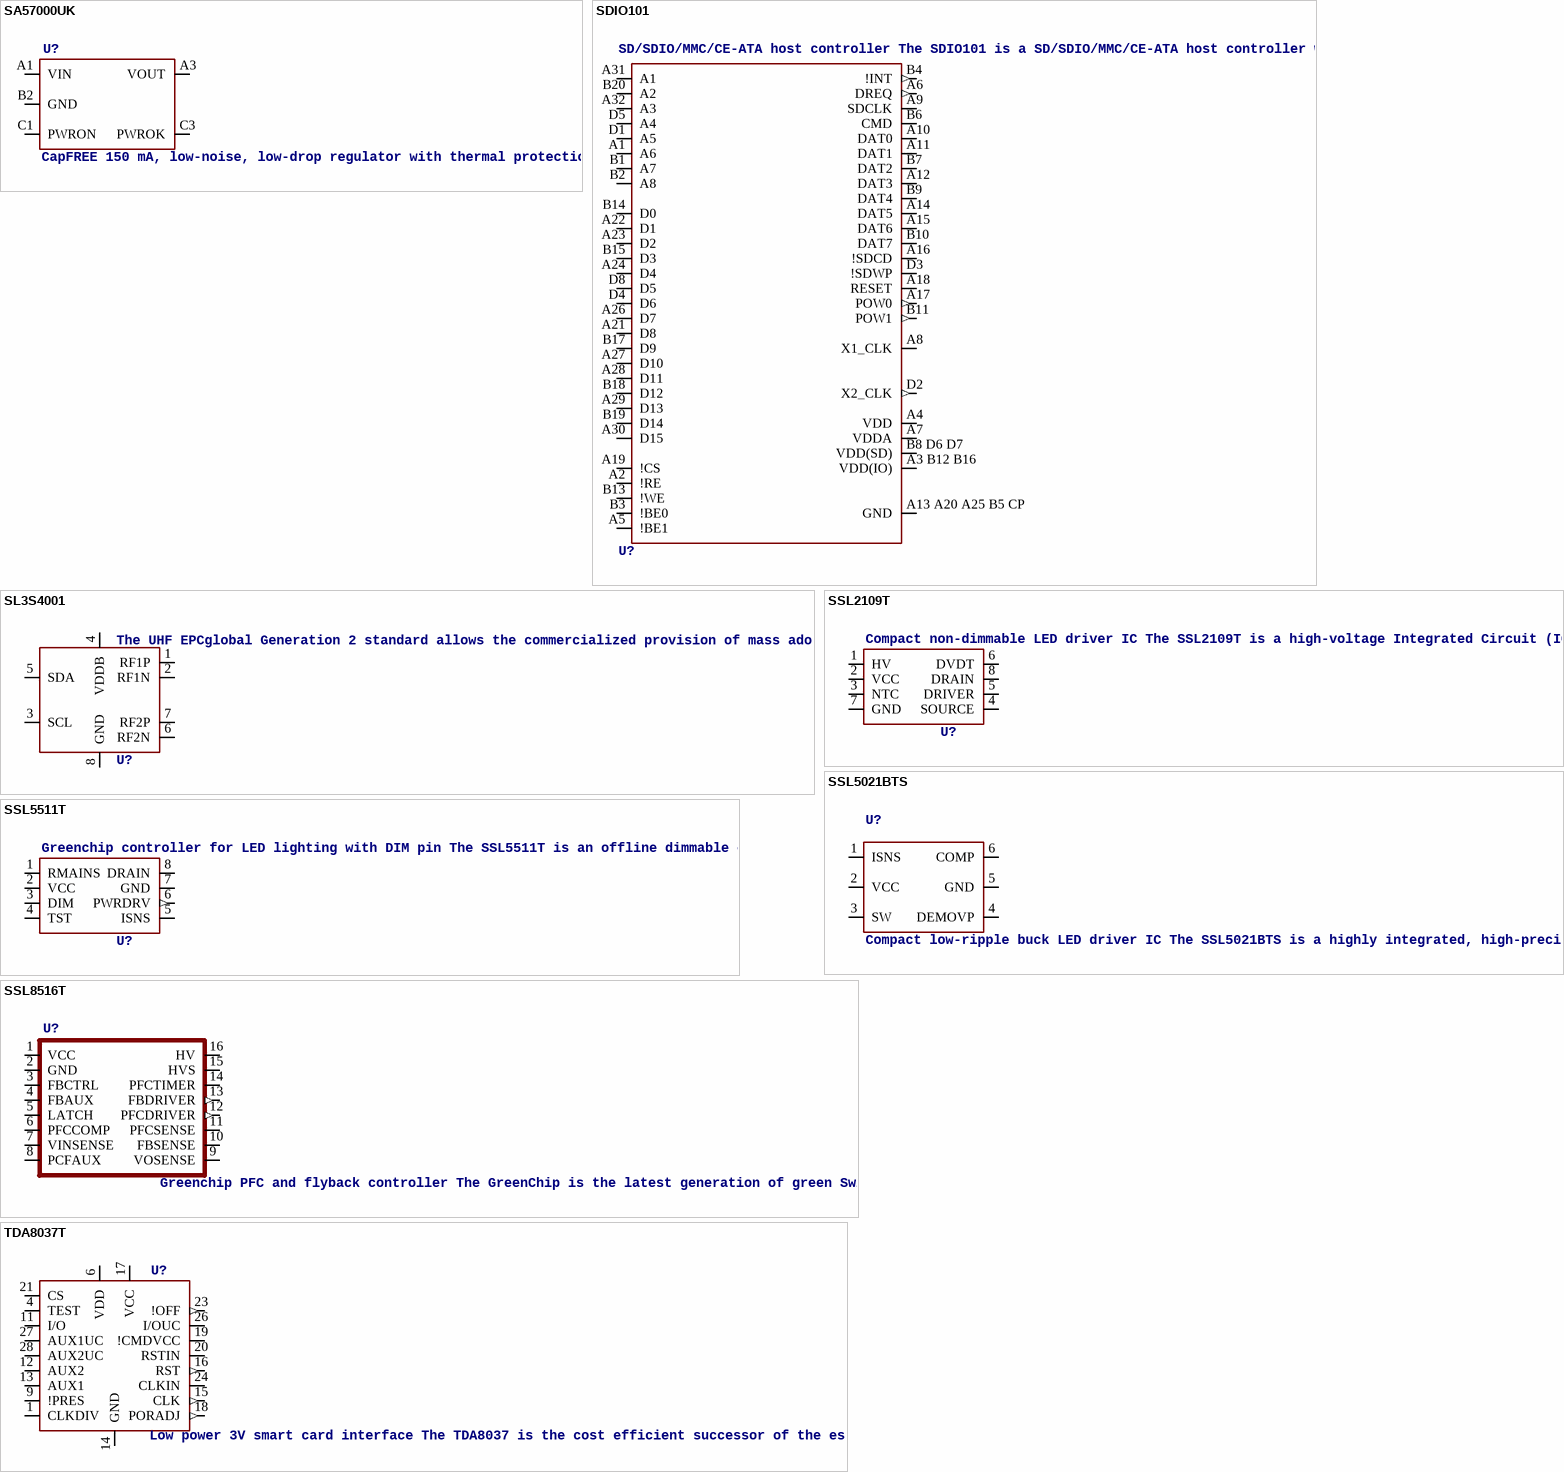
[diagram p179: symbols SA57000UK to TDA8037T]

## SA57000UK
designator U?, comment CapFREE 150 mA, low-noise, low-drop regulator with thermal protection
footprint WL-CSP5
pins: A1 VIN, A3 VOUT, B2 GND, C1 PWRON, C3 PWROK

## SDIO101
designator U?, comment SD/SDIO/MMC/CE-ATA host controller The SDIO101 is a SD/SDIO/MMC/CE-ATA host controller with a standard 16-bit asynchronous memory interface. The device conforms to the SD Host Standard Specification Version 2.0. The SDIO101 manages the physical layer of SD, SDIO, MMC and CE-ATA protocols and can be used together with SD Host Standard compatible driver software to add SD/SDIO/MMC/CE-ATA host functionality to a variety of microprocessor systems. The SDIO101 supports both full-speed (lower than 25 MHz) and high-speed (lower than 52 MHz) data transmissions on the SD/SDIO/MMC/CE-ATA port. The SDIO101 offers separate pins for SD/SDIO/MMC/CE-ATA port supply voltage, host interface supply voltage and core supply voltage. The SD/SDIO/MMC/CE-ATA port can operate at a wide voltage range (1.8 V to 3.6 V) which allows the device to interface to a large variety of SD, SDIO, MMC or CE-ATA devices. The SDIO101 allows 1-bit and 4-bit SD transactions and 8-bit MMC/CE-ATA transactions. The 16-bit asynchronous memory interface can operate at a 2.5 V to 3.6 V voltage range. A built-in, 2 kB data buffer allows for a low interrupt latency time and efficient communication with the host processor at high data rates. The SDIO101 provides a DMA request line that can be connected to an external DMA controller to off-load the host processor and increase overall system performance. An on-board PLL allows a large range of SD/SDIO/MMC/CE-ATA clock speeds to be generated from a single externally available clock source. An additional fractional divider allows the SD clock speed to be fine-tuned with very fine granularity, which enables the user to achieve the maximum desired SD clock speed from the external clock source. The SDIO101 offers 5 levels of power saving, including a ‘Hibernate mode’ where the on-board oscillator, PLL and data buffer memories are switched off, and a ‘Coma mode’ in which supply power to most of the device is internally switched off. This allows the device to be used in very power-critical applications.    AAL Eindhoven MK
footprint SOT1133-1
pins: A1 A6, A2 !RE, A3 B12 B16 VDD(IO) (power), A4 VDD (power), A5 !BE1, A6 DREQ (out), A7 VDDA (power), A8 X1_CLK, A9 SDCLK, A10 DAT0, A11 DAT1, A12 DAT3, A13 A20 A25 B5 CP GND (power), A14 DAT5, A15 DAT6, A16 !SDCD, A17 POW0 (out), A18 RESET, A19 !CS, A21 D8, A22 D1, A23 D2, A24 D4, A26 D7, A27 D10, A28 D11, A29 D13, A30 D15, A31 A1, A32 A3, B1 A7, B2 A8, B3 !BE0, B4 !INT (out), B6 CMD, B7 DAT2, B8 D6 D7 VDD(SD) (power), B9 DAT4, B10 DAT7, B11 POW1 (out), B13 !WE, B14 D0, B15 D3, B17 D9, B18 D12, B19 D14, B20 A2, D1 A5, D2 X2_CLK (out), D3 !SDWP, D4 D6, D5 A4, D8 D5

## SL3S4001
designator U?, comment The UHF EPCglobal Generation 2 standard allows the commercialized provision of mass adoption of UHF RFID technology for passive smart tags and labels. Main fields of applications are supply chain management and logistics for worldwide use with special consideration of European, US and Chinese frequencies to ensure that operating distances of several meters can be realized. The UCODE I2C is a product out of the NXP Semiconductors UCODE product family. The entire UCODE product family offers anti-collision and collision arbitration functionality. This allows a reader to simultaneously operate multiple labels/tags within its antenna field. A UCODE I2C based label/ tag requires no external power supply for contactless operation. Its contactless interface generates the power supply via the antenna circuit by propagative energy transmission from the interrogator (reader), while the system clock is generated by an on-chip oscillator. Data transmitted from the interrogator to the label/tag is demodulated by the interface, and it also modulates the interrogator's electromagnetic field for data transmission from the label/tag to the interrogator. A label/tag can be operated without the need for line of sight or battery, as long as it is connected to a dedicated antenna for the targeted frequency range. When the label/tag is within the interrogator's operating range, the high-speed wireless interface allows data transmission in both directions. The UCODE I2C also features an I2C interface to read/write data from its build in memory. In this mode the UCODE I2C needs to be supplied externally. The I2C interface supports standard and fast I2C modes. The used EEPROM is based on a field proven non-volatile memory technology. The EEPROM memory cell is also used in high quality automotive applications.    AAL Eindhoven MK
footprint SOT902-1/2/3
pins: 1 RF1P, 2 RF1N, 3 SCL, 4 VDDB (power), 5 SDA, 6 RF2N, 7 RF2P, 8 GND (power)

## SSL2109T
designator U?, comment Compact non-dimmable LED driver IC The SSL2109T is a high-voltage Integrated Circuit (IC) for driving LED lamps in general lighting applications. The main benefits of this IC include: • Small Printed-Circuit Board (PCB) footprint and compact solution • High efficiency (up to 95 %) for non-dimmable high power factor solutions • High power factor >0.9 (application dependent) • Ease of integration and many protection features • Low electronic Bill Of Material (BOM) • Highly flexible IC for use in buck, buck/boost and flyback modes • Single inductor used for non-isolated configurations because of internal demagnetization detection and dV/dt supply The IC is supplementary to the SSL21081/SSL21083 series but without an internal switch. The IC has been designed to start up directly from the HV supply by an internal high-voltage current source. Thereafter, the dV/dt supply is used with capacitive coupling from the drain, or any other auxiliary supply. This functionality provides full flexibility in the application design. An internal clamp limits the supply voltage. The IC provides accurate output current control to within 5 % LED current accuracy. The IC can be operated using Pulse-Width Modulation (PWM) current regulation and has many protection features including easy LED temperature feedback.    AAL Eindhoven MK
footprint SOT96-1
pins: 1 HV (power), 2 VCC (power), 3 NTC, 4 SOURCE, 5 DRIVER, 6 DVDT, 7 GND (power), 8 DRAIN

## SSL5021BTS
designator U?, comment Compact low-ripple buck LED driver IC The SSL5021BTS is a highly integrated, high-precision, non-isolated MOSFET/bipolar buck controller. It is intended to drive LED lamps in universal mains non-dimmable lighting applications up to 25 W. The SSL5021BTS is designed for low-ripple applications. The SSL5021BTS operates in Boundary Conduction Mode (BCM) with on-time regulation. Operating in BCM provides a constant output current control with high accuracy. Adaptive switching frequency gives freedom to choose the inductor, which enables the optimization of inductor size, efficiency and EMI. The SSL5021BTS starts up and operates in switching mode directly from an external resistor without dV/dt supply or auxiliary supply. This feature simplifies the VCC supply. It allows a low-cost off-the-shelf inductor to be used, providing flexibility in application design. The SSL5021BTS comes in a compact TSOP6 package. The SSL5031BTS is suitable for high power factor/Low THD applications with a high-temperature foldback function. The SSL5031CTS is best for high power factor/low THD applications without a high-temperature foldback function.   AAL Eindhoven MK
footprint SOT457
pins: 1 ISNS, 2 VCC (power), 3 SW, 4 DEMOVP, 5 GND (power), 6 COMP

## SSL5511T
designator U?, comment Greenchip controller for LED lighting with DIM pin The SSL5511T is an offline dimmable controller IC, intended to drive dimmable LEDs in general lighting applications, like remote-controlled luminaires and smart lamps. The main benefits of this IC include: • Dim level control with either an analog or a digital control input • Selectable modes for high power factor or low ripple, allowing a wide LED power range • Large dimming range • Single stage topology for small PCB footprint • Ease of design-in • Integrated start-up JFET • Low electronic Bill Of Material (BOM) • Various converter topologies supported The IC drives an external switch for easy power scaling. It has been designed to start up directly from the High-Voltage (HV) supply by an internal high-voltage current source. Flyback, buck and buck-boost circuit topologies are supported. Primary side sensing provides accurate output current control. The IC can detect analog signals (according to IEC60929 annex E) or digital control signals and translate them to a continuous LED current in multiple ways. It can operate in three switching modes at two switching frequency ranges. It offers tradeoffs between the output current ripple, the mains current Total Harmonic Distortion (THD) and the application size. The IC incorporates all required protection features.    AAL Eindhoven MK
footprint SOT96-1
pins: 1 RMAINS (power), 2 VCC (power), 3 DIM, 4 TST, 5 ISNS, 6 PWRDRV (out), 7 GND (power), 8 DRAIN

## SSL8516T
designator U?, comment Greenchip PFC and flyback controller The GreenChip is the latest generation of green Switched Mode Power Supply (SMPS) controller ICs. The SSL8516T combines a controller for Power Factor Correction (PFC) and a flyback controller. Its high level of integration enables cost-effective LED lighting application power supply design using a very low number of external components. The PFC operates in Quasi-Resonant (QR) or Discontinuous Conduction Mode (DCM), with valley switching. The specially built-in green functions provide high efficiency at all power levels. At high power levels, the flyback operates in QR mode or DCM with valley detection. At medium power levels, the flyback controller switches to Frequency Reduction (FR) mode and limits the peak current to an adjustable minimum value. It ensures high efficiency while minimizing the audible noise from the transformer. In low-power mode, the PFC switches off to maintain high efficiency. Valley switching is used in all operating modes. The SSL8516T is a Multi-Chip Module (MCM), containing two chips. The proprietary high-voltage BCD800 process makes direct start-up possible from the rectified universal mains voltage in an effective and green way. The second low voltage Silicon-On-Insulator (SOI) is used for accurate, high-speed protection functions and control. The SSL8516T enables easy design of highly efficient and reliable LED lighting application power supplies between 25 W and 300 W. LED drivers in particular benefit from the high level of integration. The IC meets the lighting class C requirements on mains current harmonics as specified by IEC 61000-3-2 over a wide input voltage range and a wide output power range.    AAL Eindhoven MK
footprint SOT109-1
pins: 1 VCC (power), 2 GND (power), 3 FBCTRL, 4 FBAUX, 5 LATCH, 6 PFCCOMP, 7 VINSENSE, 8 PCFAUX, 9 VOSENSE, 10 FBSENSE, 11 PFCSENSE, 12 PFCDRIVER (out), 13 FBDRIVER (out), 14 PFCTIMER, 15 HVS, 16 HV

## TDA8037T
designator U?, comment Low power 3V smart card interface The TDA8037 is the cost efficient successor of the established integrated contact smart card reader IC TDA8035. It offers a high level of security for the card performing current limitation, short circuit detection, ESD protection as well as supply supervision. Operating in 3 V supply domain, the current consumption during the shutdown mode of the contact reader is very low. It is therefore the ideal component for a power efficient contact reader.   AAL Eindhoven MK
footprint SOT136-1
pins: 1 CLKDIV, 4 TEST, 6 VDD, 9 !PRES, 11 I/O, 12 AUX2, 13 AUX1, 14 GND, 15 CLK (out), 16 RST (out), 17 VCC, 18 PORADJ (out), 19 !CMDVCC, 20 RSTIN, 21 CS, 23 !OFF (out), 24 CLKIN, 26 I/OUC, 27 AUX1UC, 28 AUX2UC

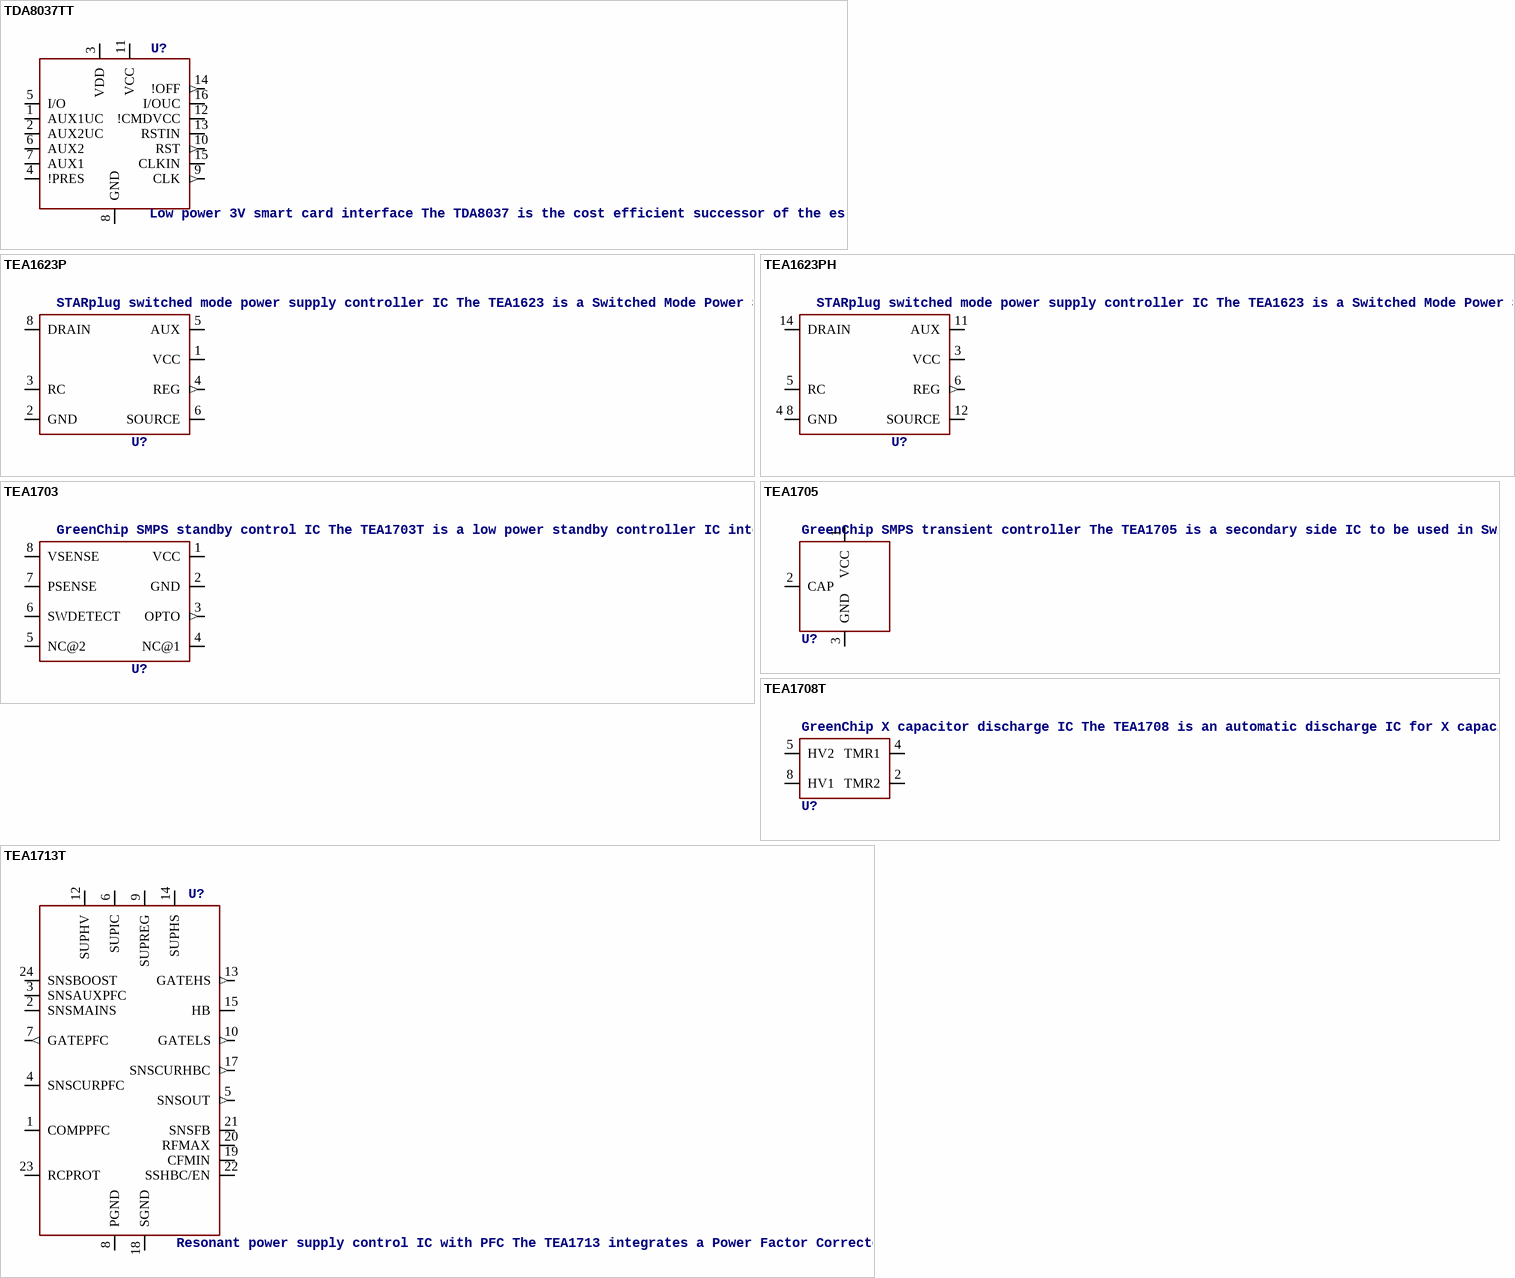
[diagram p180: symbols TDA8037TT to TEA1713T]

## TDA8037TT
designator U?, comment Low power 3V smart card interface The TDA8037 is the cost efficient successor of the established integrated contact smart card reader IC TDA8035. It offers a high level of security for the card performing current limitation, short circuit detection, ESD protection as well as supply supervision. Operating in 3 V supply domain, the current consumption during the shutdown mode of the contact reader is very low. It is therefore the ideal component for a power efficient contact reader.   AAL Eindhoven MK
footprint SOT403-1
pins: 1 AUX1UC, 2 AUX2UC, 3 VDD, 4 !PRES, 5 I/O, 6 AUX2, 7 AUX1, 8 GND, 9 CLK (out), 10 RST (out), 11 VCC, 12 !CMDVCC, 13 RSTIN, 14 !OFF (out), 15 CLKIN, 16 I/OUC

## TEA1623P
designator U?, comment STARplug switched mode power supply controller IC The TEA1623 is a Switched Mode Power Supply (SMPS) controller IC that operates directly from rectified universal mains. It is implemented in the high voltage EZ-HV SOI process, combined with a low voltage BiCMOS process. The device includes a high voltage power switch and a circuit for start-up directly from the rectified mains voltage. A dedicated circuit for valley switching is built in, which makes a very efficient slim-line electronic power-plug concept possible. In its most basic version of application, the TEA1623 acts as a voltage source. Here, no additional secondary electronics are required. A combined voltage and current source can be realized with minimum costs for external components. Implementation of the TEA1623 renders an efficient and low cost power supply system.    AAL Eindhoven MK
footprint SOT97-1
pins: 1 VCC (power), 2 GND, 3 RC, 4 REG (out), 5 AUX, 6 SOURCE, 8 DRAIN

## TEA1623PH
designator U?, comment STARplug switched mode power supply controller IC The TEA1623 is a Switched Mode Power Supply (SMPS) controller IC that operates directly from rectified universal mains. It is implemented in the high voltage EZ-HV SOI process, combined with a low voltage BiCMOS process. The device includes a high voltage power switch and a circuit for start-up directly from the rectified mains voltage. A dedicated circuit for valley switching is built in, which makes a very efficient slim-line electronic power-plug concept possible. In its most basic version of application, the TEA1623 acts as a voltage source. Here, no additional secondary electronics are required. A combined voltage and current source can be realized with minimum costs for external components. Implementation of the TEA1623 renders an efficient and low cost power supply system.    AAL Eindhoven MK
footprint SOT38
pins: 3 VCC (power), 4 8 GND, 5 RC, 6 REG (out), 11 AUX, 12 SOURCE, 14 DRAIN

## TEA1703
designator U?, comment GreenChip SMPS standby control IC The TEA1703T is a low power standby controller IC intended to be used in applications which require an extreme low no-load standby power. The TEA1703T includes circuitry for detecting output voltage, output power and switching. The TEA1703T integrates a switched-mode optocoupler driver, which enables an optocoupler to be driven with a high peak current while keeping the required power low1 . The TEA1703T’s typical current consumption is 30 μA. In a typical notebook adapter application the TEA1703T’s power consumption is less than 0.5 mW.    AAL Eindhoven MK
footprint SOT96-1
pins: 1 VCC (power), 2 GND (power), 3 OPTO (out), 4 NC@1, 5 NC@2, 6 SWDETECT, 7 PSENSE, 8 VSENSE

## TEA1705
designator U?, comment GreenChip SMPS transient controller The TEA1705 is a secondary side IC to be used in Switched Mode Power Supplies (SMPS) with high power density. The device offers excellent transient response in primary controlled systems of NXP Semiconductors, with ultra-low no-load power and minimum sized output capacitors. The TEA1705 is intended to be used in power supplies and battery chargers with 5 V output. The TEA1705 operates in combination with the NXP Semiconductors primary-side controller like the TEA1720xT. The output voltage is continuously monitored and when the output voltage is below the Vdet level, a transient interrupt signal is generated. This signal is transmitted via the transformer to the primary side to wake up the primary controller. This system reduces the volume of the output capacitors, minimizing the BOM cost. It also enables the building of compact chargers.    AAL Eindhoven MK
footprint SOT23
pins: 1 VCC (power), 2 CAP, 3 GND (power)

## TEA1708T
designator U?, comment GreenChip X capacitor discharge IC The TEA1708 is an automatic discharge IC for X capacitors with a low power consumption (typically 1 mW at 230 V (AC). A 500 V clamping circuit is integrated, protecting the IC during mains surges. In a typical application with only two 200 k resistors, the maximum differential mode mains surge voltage allowed exceeds 6 kV. A metal oxide varistor is not required to protect the IC. The X capacitor discharge current is internally limited to 2.3 mA. The discharge delay timer is set externally using a low voltage capacitor. The very low power consumption in combination with a large discharge current enables the use of a large value X capacitor to reduce EMI while retaining the low standby power.    AAL Eindhoven MK
footprint SOT96-1
pins: 2 TMR2, 4 TMR1, 5 HV2, 8 HV1

## TEA1713T
designator U?, comment Resonant power supply control IC with PFC The TEA1713 integrates a Power Factor Corrector (PFC) controller and a controller for a Half-Bridge resonant Converter (HBC) in a multi-chip IC. It provides the drive function for the discrete MOSFET in an up-converter and for the two discrete power MOSFETs in a resonant half-bridge configuration. The efficient operation of the PFC is achieved by implementing functions such as quasi-resonant operation at high power levels and quasi-resonant operation with valley skipping at lower power levels. OverCurrent Protection (OCP), OverVoltage Protection (OVP), and demagnetization sensing ensure safe operation under all conditions. The HBC module is a is a high-voltage controller for a zero-voltage switching LLC resonant converter. It contains a high-voltage level shift circuit and several protection circuits including OCP, open-loop protection, capacitive mode protection and a general purpose latched protection input. The high-voltage chip is fabricated using a proprietary high-voltage Bipolar-CMOS-DMOS power logic process that enables efficient direct start-up from the rectified universal mains voltage. The low-voltage Silicon On Insulator (SOI) chip is used for accurate, high-speed protection functions and control. The topology of a PFC circuit and a resonant converter controlled by the TEA1713 is very flexible, enabling it to be used in a broad range of applications with a wide mains voltage range. Combining PFC and HBC controllers in a single IC makes the TEA1713 ideal for controlling power supplies in LCD and plasma televisions. Highly efficient and reliable power supplies providing over 100 W can be designed easily using the TEA1713, with a minimum of external components.    AAL Eindhoven MK
12NC: 9352 895 98518; FARNELL: 1872212
footprint SOT137-1
pins: 1 COMPPFC, 2 SNSMAINS, 3 SNSAUXPFC, 4 SNSCURPFC, 5 SNSOUT (out), 6 SUPIC (power), 7 GATEPFC (out), 8 PGND (power), 9 SUPREG, 10 GATELS (out), 12 SUPHV, 13 GATEHS (out), 14 SUPHS, 15 HB, 17 SNSCURHBC (out), 18 SGND (power), 19 CFMIN, 20 RFMAX, 21 SNSFB, 22 SSHBC/EN, 23 RCPROT, 24 SNSBOOST

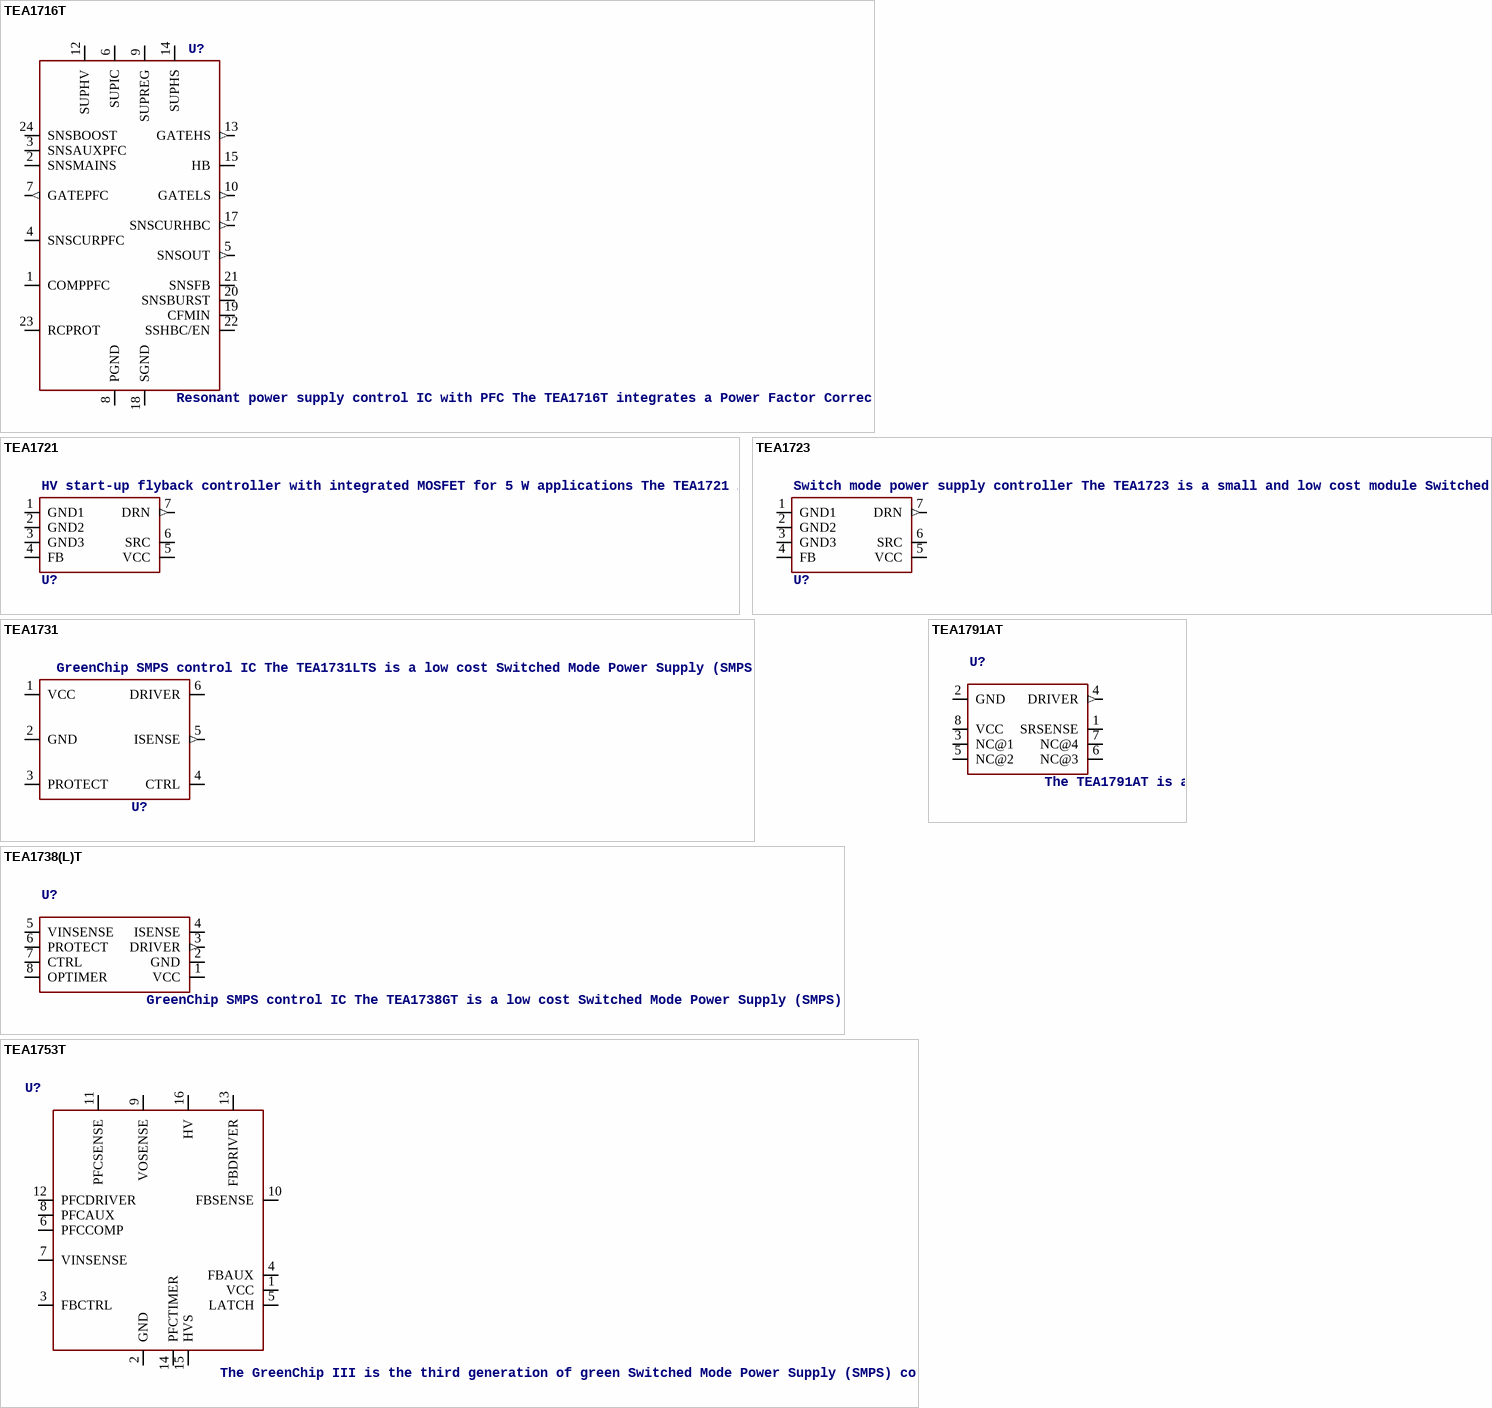
[diagram p181: symbols TEA1716T to TEA1791AT]

## TEA1716T
designator U?, comment Resonant power supply control IC with PFC The TEA1716T integrates a Power Factor Corrector (PFC) controller and a controller for a Half-Bridge resonant Converter (HBC) in a multi-chip IC. It provides the drive function for the discrete MOSFET in an up-converter and for the two discrete power MOSFETs in a resonant half-bridge configuration. Efficient PFC operation is achieved by implementing functions for Quasi-Resonant (QR) operation at high-power levels and QR operation with valley skipping at lower power levels. OverCurrent Protection (OCP), OverVoltage Protection (OVP) and demagnetization sensing ensure safe operation under all conditions. The HBC module is a high-voltage controller for a zero-voltage switching LLC resonant converter. It contains a high-voltage level shift circuit and several protection circuits including OCP, open-loop protection, capacitive mode protection and a general purpose latched protection input. The high-voltage chip is fabricated using a proprietary high-voltage Bipolar-CMOS-DMOS power logic process enabling efficient direct start-up from the rectified universal mains voltage. The low-voltage Silicon-On-Insulator (SOI) chip is used for accurate, high-speed protection functions and control. TEA1716T controlled PFC circuit and resonant converter are very flexible. It can be used for a broad range of applications over a wide mains voltage range. Combining PFC and HBC controllers in a single IC makes the TEA1716T ideal for controlling power supplies in LCD and plasma televisions. Using the TEA1716T highly efficient and reliable power supplies providing from 90 W to 500 W can be designed easily using the TEA1716T, with a minimum of external components. The integrated Burst mode and power management functionality of TEA1716T enable resonant applications that meet the Energy Using Product Directive (EuP) lot 6 (< 0.5 W in Standby mode).   AAL Eindhoven MK
footprint SOT137-1
pins: 1 COMPPFC, 2 SNSMAINS, 3 SNSAUXPFC, 4 SNSCURPFC, 5 SNSOUT (out), 6 SUPIC (power), 7 GATEPFC (out), 8 PGND (power), 9 SUPREG, 10 GATELS (out), 12 SUPHV, 13 GATEHS (out), 14 SUPHS, 15 HB, 17 SNSCURHBC (out), 18 SGND (power), 19 CFMIN, 20 SNSBURST, 21 SNSFB, 22 SSHBC/EN, 23 RCPROT, 24 SNSBOOST

## TEA1721
designator U?, comment HV start-up flyback controller with integrated MOSFET for 5 W applications The TEA1721 is a small and low cost module Switched Mode Power Supply (SMPS) controller IC for low power applications (up to 5 W) and operates directly from the rectified universal mains input. The device includes a high voltage power switch (700 V) and has been optimized for flyback converter topologies to provide high-efficiency over the entire load range with ultra-low power consumption in the no-load condition. It provides a circuit for start-up directly from the rectified mains voltage without any external bleeder circuits. The converter operates as a regulated voltage source from no-load up to the maximum output current and operates as current source that delivers the maximum current over a broad output voltage range. Using the TEA1721, a low power converter can be built at minimum cost and with the minimum number of external components. The controller regulates the output voltage with primary-side sensing which eliminates the need for an additional secondary feedback circuitry and simplifies the design. At higher power levels, a frequency and current control mode is used. It operates with Burst mode control at low power levels and no-load condition. The burst mode minimizes audible noise and provides an energy saver state which reduces the power consumption in no-load condition.    AAL Eindhoven MK
12NC: 9352 968 88118; BURST: 430 Hz; 12NC: 9352 968 94118; BURST: 905 Hz; 12NC: 9352 968 89118; BURST: 1270 Hz; 12NC: 9352 968 87118; BURST: 1750 Hz
footprint SOT1175-1
pins: 1 GND1 (power), 2 GND2 (power), 3 GND3 (power), 4 FB, 5 VCC (power), 6 SRC, 7 DRN (out)

## TEA1723
designator U?, comment Switch mode power supply controller The TEA1723 is a small and low cost module Switched Mode Power Supply (SMPS) controller IC for power applications (up to 11 W) and operates directly from the rectified universal mains input. The device includes a high voltage power switch (700 V) and has been optimized for flyback converter topologies to provide high-efficiency over the entire load range with ultra-low power consumption in the no-load condition. It provides a circuit for start-up directly from the rectified mains voltage without any external bleeder circuits. The converter operates as a regulated voltage source from no-load up to the maximum output current and operates as current source that delivers the maximum current over a broad output voltage range. Using the TEA1723, a low power converter can be built at minimum cost and with the minimum number of external components. The controller regulates the output voltage with primary-side sensing which eliminates the need for an additional secondary feedback circuitry and simplifies the design. At higher power levels, a frequency and current control mode is used. It operates with burst mode control at low power levels and no-load condition. The burst mode minimizes audible noise and provides an energy saver state which reduces the power consumption in no-load condition. The Burst mode frequency of 1750 Hz enables no-load power consumption < 53 mW at 230 V (AC) mains input.    AAL Eindhoven MK
12NC: 9352 968 88118
footprint SOT1175-1
pins: 1 GND1 (power), 2 GND2 (power), 3 GND3 (power), 4 FB, 5 VCC (power), 6 SRC, 7 DRN (out)

## TEA1731
designator U?, comment GreenChip SMPS control IC The TEA1731LTS is a low cost Switched Mode Power Supply (SMPS) controller IC intended for flyback topologies. The TEA1731LTS operates in peak current and frequency control mode. Frequency jitter has been implemented to reduce ElectroMagnetic Interference (EMI). Slope compensation is integrated for Continuous Conduction Mode (CCM) operation. The TEA1731LTS IC features OverPower Protection (OPP). The controller accepts an overpower situation for a limited amount of time. One pin is reserved for protection purposes. OverTemperature Protection (OTP) can be implemented with a minimal number of external components. At low-power levels, the primary peak current is set to 25 % of the maximum peak current. The switching frequency is reduced to limit the switching losses. The combination of fixed frequency operation at high output power and frequency reduction at low output power provides high efficiency over the total load range. The TEA1731LTS makes the design of low cost, highly efficient and reliable supplies for power requirements up to 75 W easier by requiring a minimum number of external components.    AAL Eindhoven MK
12NC: 9352 965 45115; 12NC: 9352 965 44115; FARNELL: 2142714
footprint SOT457
pins: 1 VCC (power), 2 GND, 3 PROTECT, 4 CTRL, 5 ISENSE (out), 6 DRIVER

## TEA1738(L)T
designator U?, comment GreenChip SMPS control IC The TEA1738GT is a low cost Switched Mode Power Supply (SMPS) controller IC intended for flyback topologies. It operates in peak current and frequency control mode. Frequency jitter has been implemented to reduce ElectroMagnetic Interference (EMI). Slope compensation is integrated for Continuous Conduction Mode (CCM) operation. The TEA1738GT IC includes OverPower Protection (OPP). This enables the controller to operate under overpower situations for a limited amount of time. Two pins, VINSENSE and PROTECT, are reserved for protection purposes. Input UnderVoltage Protection (UVP), output OverVoltage Protection (OVP) and OverTemperature Protection (OTP) can be implemented using a minimal number of external components. At low power levels the primary peak current is set to 25 % of the maximum peak current and the switching frequency is reduced to limit switching losses. The combination of fixed frequency operation at high output power and frequency reduction at low output power provides high efficiency over the total load range. The TEA1738GT enables low cost, highly efficient and reliable supplies for power requirements up to 75 W to be designed easily and with a minimum number of external components. The TEA1738GT is intended to operate in combination with a standby power supply. It has a lower start-up voltage than the TEA1738    AAL Eindhoven MK
12NC: 9352 918 76118
footprint SOT96-1
pins: 1 VCC (power), 2 GND (power), 3 DRIVER (out), 4 ISENSE, 5 VINSENSE, 6 PROTECT, 7 CTRL, 8 OPTIMER